# Altium footprint library ReadyButNotListed.PcbLib: 5 footprints
Each footprint in its own frame and in the unit in brackets; x right, y up, seen from the top. Pads: shape width x height; smd on the part's side, far side on the other; paste and mask are expansions set on the pad; w line width, h text height; cw(c..) or ccw(c..) is an arc to the next point about the centre after c.
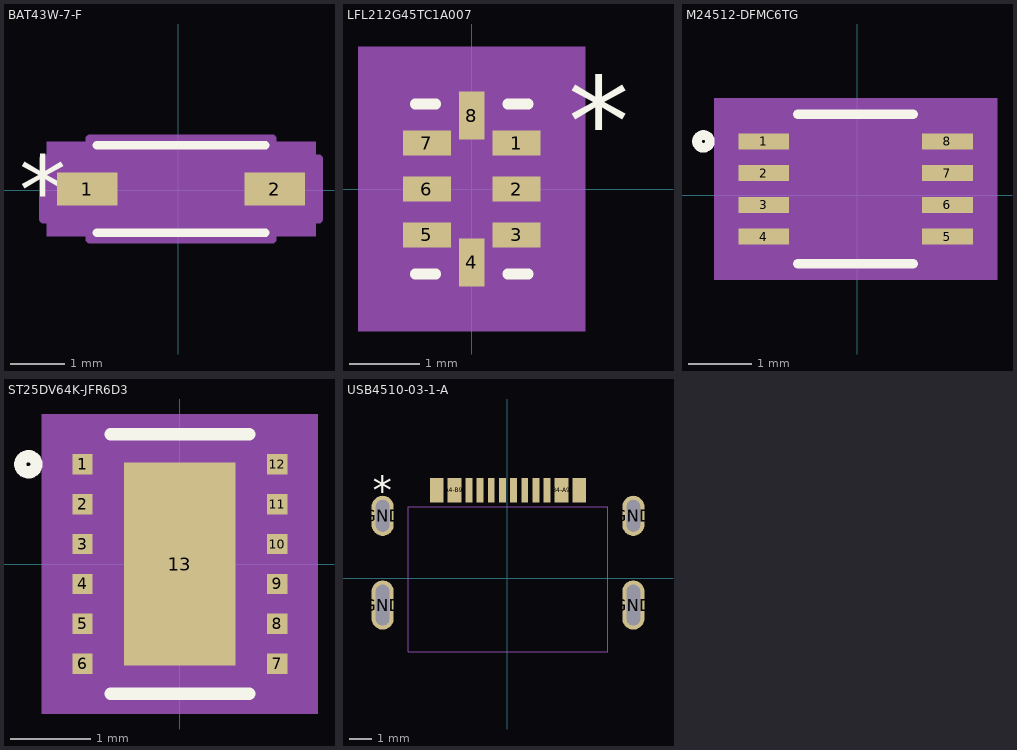
[diagram p0: the footprints below, top view; thin cyan lines are the x and y axes]

## BAT43W-7-F [mil]
pads (2):
  rect 43.75x23.65 smd paste+0 mask+0: 1(-65.91,1) 2(69.91,1)
Top Overlay:
  lines w6: -59.1,-30.57 63.1,-30.57 ; -59.1,32.57 63.1,32.57
  text "*" at -115.29,-24 h50
Mechanical 5:
  region: 99.29,-33.07 -95.29,-33.07 -95.29,35.07 99.29,35.07
Mechanical 13:
  lines w1: -54.1,-12.29 -40.81,-25.57 ; -54.1,14.29 -40.81,27.57 ; -73.79,-9.83 -54.1,-9.83 -54.1,11.83 -73.79,11.83 -73.79,-9.83 ; -54.1,-25.57 -54.1,27.57 58.1,27.57 58.1,-25.57 -54.1,-25.57 ; 58.1,-9.83 77.79,-9.83 77.79,11.83 58.1,11.83 58.1,-9.83
  text "*" at -56.6,-24 h50
Mechanical 15:
  region: -64.1,-20.83 -97.79,-20.83 -97.79,22.83 -64.1,22.83 -64.1,37.57 68.1,37.57 68.1,22.83 101.79,22.83 101.79,-20.83 68.1,-20.83 68.1,-35.57 -64.1,-35.57
  lines w6: -97.79,-20.83 -64.1,-20.83 -64.1,-35.57 68.1,-35.57 68.1,-20.83 101.79,-20.83 101.79,22.83 68.1,22.83 68.1,37.57 -64.1,37.57 -64.1,22.83 -97.79,22.83 -97.79,-20.83

## LFL212G45TC1A007 [mil]
pads (8):
  rect 27x14 smd paste+0 mask+0: 1(25,25.59) 2(25,0) 3(25,-25.59) 5(-25,-25.59) 6(-25,0) 7(-25,25.59)
  rect 14x27 smd paste+0 mask+0: 4(0,-41) 8(0,41)
Top Overlay:
  lines w6: -31.5,-47.5 -20.1,-47.5 ; -31.5,47.5 -20.1,47.5 ; 20.1,-47.5 31.5,-47.5 ; 20.1,47.5 31.5,47.5
  text "*" at 54,13.39 h50
Mechanical 5:
  region: 63.5,-79.5 -63.5,-79.5 -63.5,79.5 63.5,79.5
Mechanical 13:
  lines w1: -26.5,-7.5 23.5,42.5 ; -26.5,-42.5 26.5,-42.5 26.5,42.5 -26.5,42.5 -26.5,-42.5 ; -26.5,-33.59 -26.5,-17.59 -26.5,-33.59 ; -26.5,-8 -26.5,8 -26.5,-8 ; -26.5,17.59 -26.5,33.59 -26.5,17.59 ; -8,-42.5 8,-42.5 -8,-42.5 ; -8,42.5 8,42.5 -8,42.5 ; 26.5,-33.59 26.5,-17.59 26.5,-33.59 ; 26.5,-8 26.5,8 26.5,-8 ; 26.5,17.59 26.5,33.59 26.5,17.59
  text "*" at -2.5,15 h50
Mechanical 15:
  region: -17,-52.5 -36.5,-52.5 -36.5,-42.59 -48.5,-42.59 -48.5,42.59 -36.5,42.59 -36.5,52.5 -17,52.5 -17,64.5 17,64.5 17,52.5 36.5,52.5 36.5,42.59 48.5,42.59 48.5,-42.59 36.5,-42.59 36.5,-52.5 17,-52.5 17,-64.5 -17,-64.5
  lines w6: -48.5,-42.59 -36.5,-42.59 -36.5,-52.5 -17,-52.5 -17,-64.5 17,-64.5 17,-52.5 36.5,-52.5 36.5,-42.59 48.5,-42.59 48.5,42.59 36.5,42.59 36.5,52.5 17,52.5 17,64.5 -17,64.5 -17,52.5 -36.5,52.5 -36.5,42.59 -48.5,42.59 -48.5,-42.59
3D body: height 10, standoff 0, extent 0,0 10,10

## M24512-DFMC6TG [mil]
pads (8):
  rect 31.51x9.83 smd paste+0 mask+0: 1(-58.06,33.55) 2(-58.06,13.85) 3(-58.06,-5.85) 4(-58.06,-25.55) 5(56.06,-25.55) 6(56.06,-5.85) 7(56.06,13.85) 8(56.06,33.55)
Top Overlay:
  circle w6: c-95.51,33.55 r4
  lines w6: -36.79,-42.35 34.79,-42.35 ; -36.79,50.35 34.79,50.35
Mechanical 5:
  region: 86.81,-52.35 -88.81,-52.35 -88.81,60.35 86.81,60.35
Mechanical 13:
  circle w0: c-42.3,33.55 r3
  lines w0: -13,45.35 ccw(c-1,45.35) 11,45.35
  lines w1: -62,-37.35 60,-37.35 60,45.35 -62,45.35 -62,-37.35
Mechanical 15:
  region: -72,-40.47 -83.81,-40.47 -83.81,48.47 -72,48.47 -72,55.35 70,55.35 70,48.47 81.81,48.47 81.81,-40.47 70,-40.47 70,-47.35 -72,-47.35
  lines w6: -83.81,-40.47 -83.81,48.47 -72,48.47 -72,55.35 70,55.35 70,48.47 81.81,48.47 81.81,-40.47 70,-40.47 70,-47.35 -72,-47.35 -72,-40.47 -83.81,-40.47

## ST25DV64K-JFR6D3 [mil]
pads (13):
  rect 10.06x10.03 smd paste+0 mask+0: 1(-48,49.21) 2(-48,29.53) 3(-48,9.84) 4(-48,-9.84) 5(-48,-29.53) 6(-48,-49.21) 7(48,-49.21) 8(48,-29.53) 9(48,-9.84) 10(48,9.84) 11(48,29.53) 12(48,49.21)
  rect 55x100 smd paste+0 mask+0: 13(0,0)
Top Overlay:
  circle w6: c-74.72,49.21 r4
  lines w6: -34.24,-64 34.24,-64 ; -34.24,64 34.24,64
Top Paste:
  region: 23.56,46.06 -23.56,46.06 -23.56,3.94 23.56,3.94
  region: 23.56,-3.94 -23.56,-3.94 -23.56,-46.06 23.56,-46.06
Mechanical 5:
  region: 68.03,-74 -68.03,-74 -68.03,74 68.03,74
Mechanical 13:
  circle w0: c-42.97,49.21 r3
  lines w0: -12,59 ccw(c0,59) 12,59
  lines w1: -59,-59 59,-59 59,59 -59,59 -59,-59
Mechanical 15:
  region: -63,-58.23 -63,58.23 -63,63 63,63 63,58.23 63,-58.23 63,-63 -63,-63
  lines w6: -63,-63 -63,-58.23 -63,58.23 -63,63 63,63 63,58.23 63,-58.23 63,-63 -63,-63

## USB4510-03-1-A [mil]
pads (16):
  rect 24x43 smd paste+0 mask+0: A1-B12(-125,155.5) A4-B9(-93.5,155.5) B1-A12(127,155.5) B4-A9(95.5,155.5)
  rect 12x43 smd paste+0 mask+0: A5(-48.2,155.5) A6(-8.8,155.5) A7(10.9,155.5) A8(50.3,155.5) B5(70,155.5) B6(30.6,155.5) B7(-28.5,155.5) B8(-68,155.5)
  oval 39x87 hole 24 slot 72 at 90 deg: GND(-220.25,-47.2) GND(222.25,-47.2)
  oval 39x71 hole 24 slot 56 at 90 deg: GND(-220.25,110.25) GND(222.25,110.25)
Top Overlay:
  text "*" at -237.5,130.5 h50
Mechanical 1:
  lines w1: -175,-130 177,-130
Mechanical 13:
  lines w1: -175,-130 -175,126 177,126 177,-130
  text "*" at -237.5,130.5 h50